# Altium footprint library WS-PBTU.PcbLib: 2 footprints
Each footprint in its own frame and in the unit in brackets; x right, y up, seen from the top. Pads: shape width x height; smd on the part's side, far side on the other; paste and mask are expansions set on the pad; w line width, h text height; cw(c..) or ccw(c..) is an arc to the next point about the centre after c.
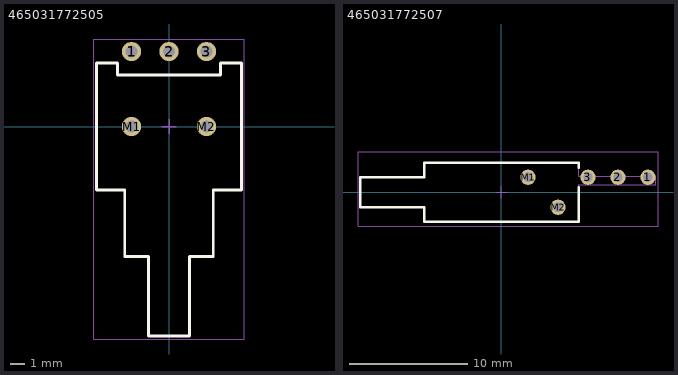
[diagram p0: the footprints below, top view; thin cyan lines are the x and y axes]

## 465031772505 [mm] "9.8 x 18.5 mm THT right angle"
height 6.3
pads (5):
  round 1.3 hole 0.8: 1(-2.54,5.08) 2(0,5.08) 3(2.54,5.08) M1(-2.54,0) M2(2.54,0)
Top Overlay:
  lines w0.2: -4.9,-4.3 -4.9,4.3 -3.5,4.3 -3.5,3.5 3.5,3.5 3.5,4.3 4.9,4.3 4.9,-4.3 3,-4.3 3,-8.8 1.4,-8.8 1.4,-14.2 -1.4,-14.2 -1.4,-8.8 -3,-8.8 -3,-4.3 -4.9,-4.3
Top Assembly:
  lines w0.1: -4.9,-4.3 -3,-4.3 -3,-8.8 -1.4,-8.8 -1.4,-14.2 1.4,-14.2 1.4,-8.8 3,-8.8 3,-4.3 4.9,-4.3 4.9,4.3 3.5,4.3 3.5,3.5 -3.5,3.5 -3.5,4.3 -4.9,4.3 -4.9,-4.3
Top Designator:
  text ".Designator" at -3.647,-0.357 h1
Top 3D Body:
  lines w0.1: -4.9,-4.3 -3,-4.3 -3,-8.8 -1.4,-8.8 -1.4,-14.2 1.4,-14.2 1.4,-8.8 3,-8.8 3,-4.3 4.9,-4.3 4.9,4.3 3.5,4.3 3.5,3.5 -3.5,3.5 -3.5,4.3 -4.9,4.3 -4.9,-4.3
Top Courtyard:
  lines w0.05: -5.1,-14.4 5.1,-14.4 5.1,5.93 -5.1,5.93 -5.1,-14.4
Top Component Center:
  lines w0.1: -0.5,0 0.5,0 ; 0,-0.5 0,0.5
3D body "465031772505.stp": height 6.49, standoff -3.41, extent -4.9,-14.2 4.9,5.23

## 465031772507 [mm] "THT Push Button Switch"
height 10.15
pads (5):
  round 1.3 hole 0.8: 1(12.41,1.27) 2(9.87,1.27) 3(7.33,1.27) M1(2.25,1.27) M2(4.79,-1.27)
Top Overlay:
  lines w0.2: 6.55,0.45 6.55,-2.5 -6.55,-2.5 -6.55,-1.27 -11.95,-1.27 -11.95,1.27 -6.55,1.27 -6.55,2.5 6.55,2.5 6.55,2.05
Top Assembly:
  lines w0.1: -11.95,-1.27 -11.95,1.27 -6.55,1.27 -6.55,2.5 6.55,2.5 6.55,1.35 13.05,1.35 13.05,0.65 6.55,0.65 6.55,-2.5 -6.55,-2.5 -6.55,-1.27 -11.95,-1.27
Top Designator:
  text ".Designator" at -3.647,-0.357 h1
Top 3D Body:
  lines w0.1: -11.95,-1.27 -11.95,1.27 -6.55,1.27 -6.55,2.5 6.55,2.5 6.55,1.35 13.05,1.35 13.05,0.65 6.55,0.65 6.55,-2.5 -6.55,-2.5 -6.55,-1.27 -11.95,-1.27
Top Courtyard:
  lines w0.05: -12.15,-2.869 13.26,-2.869 13.26,3.42 -12.15,3.42 -12.15,-2.869
Top Component Center:
  lines w0.1: -0.5,0 0.5,0 ; 0,-0.5 0,0.5
3D body "465031772507.stp": height 10.25, standoff -3.95, extent -11.95,-2.669 13.045,3.22